# EAGLE library part ESP32-H2-MINI-1-H2 (library ESP32-H2-MINI-1-H2-Pinbelegung-richtig)
Check availability <https://pricing.snapeda.com/parts/ESP32-H2-MINI-1-H2/Espressif%20Systems/view-part?ref=eda>
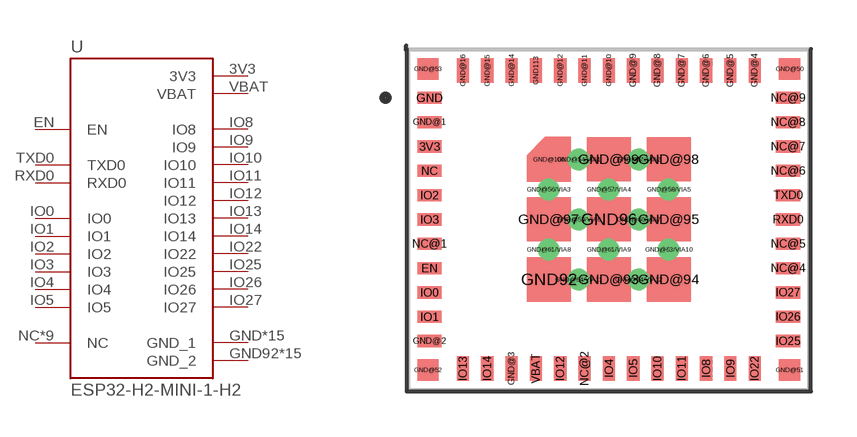
[diagram p0: symbol with the pads of MODULE_ESP32-H2-MINI-1-H2; footprint MODULE_ESP32-H2-MINI-1-H2]

Designator prefix U

## ESP32-H2-MINI-1-H2 (AVAILABILITY: In Stock; CHECK_PRICES: https://www.snapeda.com/parts/ESP32-H2-MINI-1-H2/Espressif+Systems/view-part/?ref=eda; DESCRIPTION: 802.15.4, Bluetooth Bluetooth v5.3, Zigbee® Transceiver Module 2.4GHz Integrated, Trace Surface Mount; MF: Espressif Systems; MP: ESP32-H2-MINI-1-H2; PACKAGE: SMD-53 Espressif Systems; PRICE: None; SNAPEDA_LINK: https://www.snapeda.com/parts/ESP32-H2-MINI-1-H2/Espressif+Systems/view-part/?ref=snap)  [MODULE_ESP32-H2-MINI-1-H2]
3V3  3V3  pwr
EN  EN  in
GND  GND_1  pwr
GND92  GND_2  pwr
GND96  GND_2  pwr
GND113  GND_1  pwr
GND@1  GND_1  pwr
GND@2  GND_1  pwr
GND@3  GND_1  pwr
GND@4  GND_1  pwr
GND@5  GND_1  pwr
GND@6  GND_1  pwr
GND@7  GND_1  pwr
GND@8  GND_1  pwr
GND@9  GND_1  pwr
GND@10  GND_1  pwr
GND@11  GND_1  pwr
GND@12  GND_1  pwr
GND@14  GND_1  pwr
GND@15  GND_2  pwr
GND@16  GND_2  pwr
GND@50  GND_2  pwr
GND@51  GND_2  pwr
GND@52  GND_2  pwr
GND@53  GND_2  pwr
GND@93  GND_2  pwr
GND@94  GND_2  pwr
GND@95  GND_2  pwr
GND@97  GND_2  pwr
GND@98  GND_2  pwr
GND@99  GND_2  pwr
GND@100  GND_2  pwr
IO0  IO0
IO1  IO1
IO2  IO2
IO3  IO3
IO4  IO4
IO5  IO5
IO8  IO8
IO9  IO9
IO10  IO10
IO11  IO11
IO12  IO12
IO13  IO13
IO14  IO14
IO22  IO22
IO25  IO25
IO26  IO26
IO27  IO27
NC  NC  nc
NC@1  NC  nc
NC@2  NC  nc
NC@4  NC  nc
NC@5  NC  nc
NC@6  NC  nc
NC@7  NC  nc
NC@8  NC  nc
NC@9  NC  nc
RXD0  RXD0
TXD0  TXD0
VBAT  VBAT  pwr

## Footprint MODULE_ESP32-H2-MINI-1-H2 (pad centres in mm)
smd 0.8 x 0.4: 3V3 -5.9,-0.3; EN -5.9,-4.3; GND -5.9,1.3; GND@1 -5.9,0.5; GND@2 -5.9,-6.7; IO0 -5.9,-5.1; IO1 -5.9,-5.9; IO2 -5.9,-1.9; IO3 -5.9,-2.7; IO25 5.9,-6.7; IO26 5.9,-5.9; IO27 5.9,-5.1; NC -5.9,-1.1; NC@1 -5.9,-3.5; NC@4 5.9,-4.3; NC@5 5.9,-3.5; NC@6 5.9,-1.1; NC@7 5.9,-0.3; NC@8 5.9,0.5; NC@9 5.9,1.3; RXD0 5.9,-2.7; TXD0 5.9,-1.9
smd 1.45 x 1.45: GND92 -1.975,-4.675; GND96 0,-2.7; GND@93 0,-4.675; GND@94 1.975,-4.675; GND@95 1.975,-2.7; GND@97 -1.975,-2.7; GND@98 1.975,-0.725; GND@99 0,-0.725
smd 0.4 x 0.8: GND113 -2.4,2.2; GND@3 -3.2,-7.6; GND@4 4.8,2.2; GND@5 4,2.2; GND@6 3.2,2.2; GND@7 2.4,2.2; GND@8 1.6,2.2; GND@9 0.8,2.2; GND@10 0,2.2; GND@11 -0.8,2.2; GND@12 -1.6,2.2; GND@14 -3.2,2.2; GND@15 -4,2.2; GND@16 -4.8,2.2; IO4 0,-7.6; IO5 0.8,-7.6; IO8 3.2,-7.6; IO9 4,-7.6; IO10 1.6,-7.6; IO11 2.4,-7.6; IO12 -1.6,-7.6; IO13 -4.8,-7.6; IO14 -4,-7.6; IO22 4.8,-7.6; NC@2 -0.8,-7.6; VBAT -2.4,-7.6
smd 0.7 x 0.7: GND@50 5.95,2.25; GND@51 5.95,-7.65; GND@52 -5.95,-7.65; GND@53 -5.95,2.25
drill 0.2 pad 0.3: GND@54/VIA1 -0.988,-0.725; GND@55/VIA2 0.988,-0.725; GND@56/VIA3 -1.975,-1.712; GND@57/VIA4 0,-1.712; GND@58/VIA5 1.975,-1.712; GND@59/VIA6 -0.988,-2.7; GND@60/VIA7 0.988,-2.7; GND@61/VIA8 -1.975,-3.688; GND@61/VIA9 0,-3.688; GND@63/VIA10 1.975,-3.688; GND@64/VIA11 -0.988,-4.675; GND@64/VIA12 0.988,-4.675
smd 0.5 x 0.5: GND@100 -1.975,-0.725